# Altium footprint library LaserPCB.PcbLib: 69 footprints (part 1 of 5)
Each footprint in its own frame and in the unit in brackets; x right, y up, seen from the top. Pads: shape width x height; smd on the part's side, far side on the other; paste and mask are expansions set on the pad; w line width, h text height; cw(c..) or ccw(c..) is an arc to the next point about the centre after c.
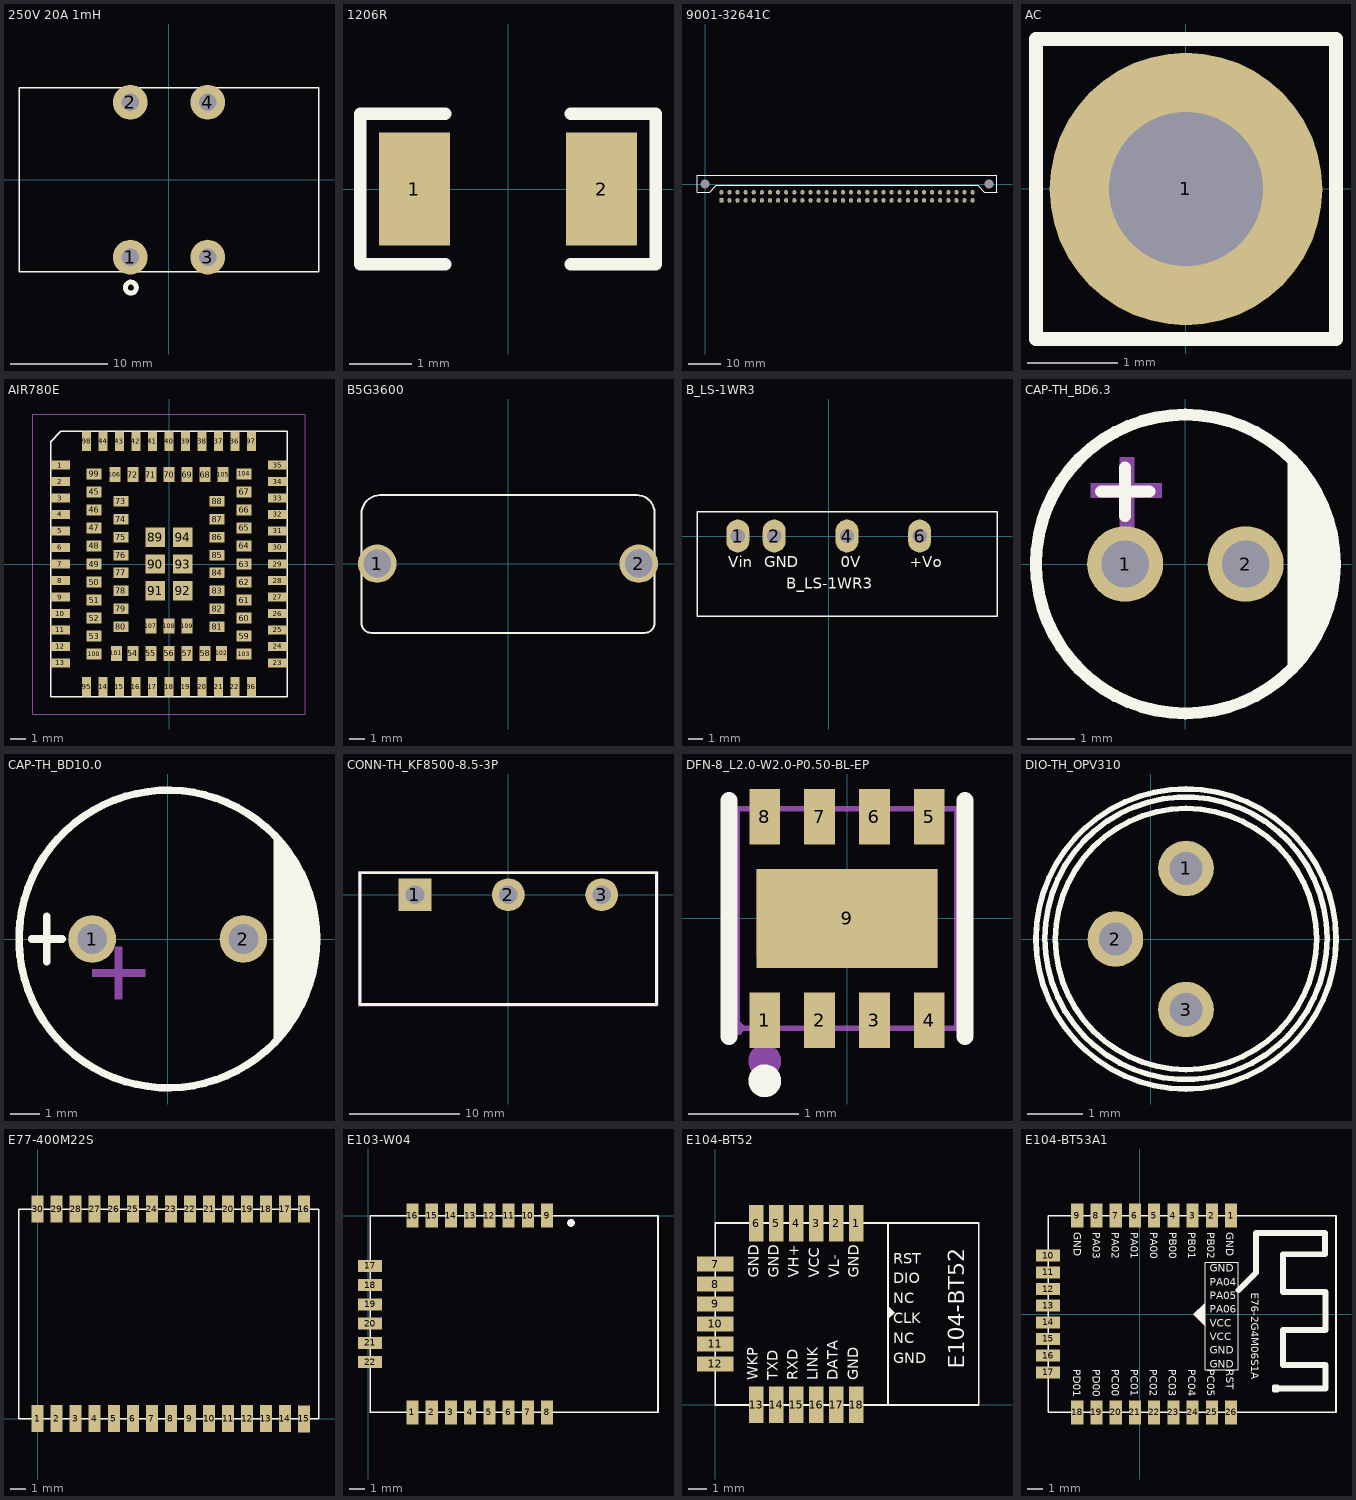
[diagram p0: the footprints below, top view; thin cyan lines are the x and y axes]

## 250V 20A 1mH [mm]
pads (4):
  round 3.6 hole 1.8: 1(-4,-8) 2(-4,8) 3(4,-8) 4(4,8)
Top Overlay:
  circle w0.508: c-3.943,-11.151 r0.568
  lines w0.152: -15.5,-9.5 -15.5,9.5 15.5,9.5 15.5,-9.5 -15.5,-9.5

## 1206R [mm]
pads (2):
  rect 1.13x1.8 smd: 1(-1.49,0) 2(1.49,0)
Top Overlay:
  lines w0.2: -1,-1.2 -2.355,-1.2 -2.355,1.2 -1,1.2 ; 1,-1.2 2.355,-1.2 2.355,1.2 1,1.2
3D body "User Library-RES_3216-1206.STEP": height 0.85, standoff 0, extent -1.7,-0.864 1.65,0.866

## 9001-32641C [mil]
pads (66):
  round 70 hole 110.24: 0(3500,0) 65(0,0)
  rect 50x55 hole 30 mask+4: 1(200,-200)
  oval 50x55 hole 30 mask+4: 2(200,-100) 3(300,-200) 4(300,-100) 5(400,-200) 6(400,-100) 7(500,-200) 8(500,-100) 9(600,-200) 10(600,-100) 11(700,-200) 12(700,-100) 13(800,-200) 14(800,-100) 15(900,-200) 16(900,-100) 17(1000,-200) 18(1000,-100) 19(1100,-200) 20(1100,-100) 21(1200,-200) 22(1200,-100) 23(1300,-200) 24(1300,-100) 25(1400,-200) 26(1400,-100) 27(1500,-200) 28(1500,-100) 29(1600,-200) 30(1600,-100) 31(1700,-200) 32(1700,-100) 33(1800,-200) 34(1800,-100) 35(1900,-200) 36(1900,-100) 37(2000,-200) 38(2000,-100) 39(2100,-200) 40(2100,-100) 41(2200,-200) 42(2200,-100) 43(2300,-200) 44(2300,-100) 45(2400,-200) 46(2400,-100) 47(2500,-200) 48(2500,-100) 49(2600,-200) 50(2600,-100) 51(2700,-200) 52(2700,-100) 53(2800,-200) 54(2800,-100) 55(2900,-200) 56(2900,-100) 57(3000,-200) 58(3000,-100) 59(3100,-200) 60(3100,-100) 61(3200,-200) 62(3200,-100) 63(3300,-200) 64(3300,-100)
Top Overlay:
  lines w10: -100,107.77 -100,-100 54.36,-100 139,-15.36 3361,-15.36 3445,-99.36 3445,-100 3600,-100 ; 3600,108.66 3600,-100 ; 3600.39,-100 3600,-100
  lines w11.81: -100,108.66 3600,108.66

## AC [mm]
pads (1):
  round 3 hole 1.7: 1(0,0)
Top Overlay:
  lines w0.152: -1.651,-1.651 -1.651,1.651 1.651,1.651 1.651,-1.651 -1.651,-1.651

## AIR780E [mm]
pads (109):
  rect 1.3x0.6 smd paste+0.05 mask+0.05: 1(-7.25,6.6) 2(-7.25,5.5) 3(-7.25,4.4) 4(-7.25,3.3) 5(-7.25,2.2) 6(-7.25,1.1) 7(-7.25,0) 8(-7.25,-1.1) 9(-7.25,-2.2) 10(-7.25,-3.3) 11(-7.25,-4.4) 12(-7.25,-5.5) 13(-7.25,-6.6) 23(7.25,-6.6) 24(7.25,-5.5) 25(7.25,-4.4) 26(7.25,-3.3) 27(7.25,-2.2) 28(7.25,-1.1) 29(7.25,0) 30(7.25,1.1) 31(7.25,2.2) 32(7.25,3.3) 33(7.25,4.4) 34(7.25,5.5) 35(7.25,6.6)
  rect 0.6x1.3 smd paste+0.05 mask+0.05: 14(-4.4,-8.2) 15(-3.3,-8.2) 16(-2.2,-8.2) 17(-1.1,-8.2) 18(0,-8.2) 19(1.1,-8.2) 20(2.2,-8.2) 21(3.3,-8.2) 22(4.4,-8.2) 36(4.4,8.2) 37(3.3,8.2) 38(2.2,8.2) 39(1.1,8.2) 40(0,8.2) 41(-1.1,8.2) 42(-2.2,8.2) 43(-3.3,8.2) 44(-4.4,8.2) 95(-5.5,-8.2) 96(5.5,-8.2) 97(5.5,8.2) 98(-5.5,8.2)
  rect 1x0.7 smd mask+0.05: 45(-5,4.8) 46(-5,3.6) 47(-5,2.4) 48(-5,1.2) 49(-5,0) 50(-5,-1.2) 51(-5,-2.4) 52(-5,-3.6) 53(-5,-4.8) 59(5,-4.8) 60(5,-3.6) 61(5,-2.4) 62(5,-1.2) 63(5,0) 64(5,1.2) 65(5,2.4) 66(5,3.6) 67(5,4.8) 73(-3.2,4.2) 74(-3.2,3) 75(-3.2,1.8) 76(-3.2,0.6) 77(-3.2,-0.6) 78(-3.2,-1.8) 79(-3.2,-3) 80(-3.2,-4.2) 81(3.2,-4.2) 82(3.2,-3) 83(3.2,-1.8) 84(3.2,-0.6) 85(3.2,0.6) 86(3.2,1.8) 87(3.2,3) 88(3.2,4.2) 99(-5,6) 100(-5,-6) 103(5,-6) 104(5,6)
  rect 0.7x1 smd mask+0.05: 54(-2.4,-5.95) 55(-1.2,-5.95) 56(0,-5.95) 57(1.2,-5.95) 58(2.4,-5.95) 68(2.4,5.95) 69(1.2,5.95) 70(0,5.95) 71(-1.2,5.95) 72(-2.4,5.95) 101(-3.5,-5.95) 102(3.5,-5.95) 105(3.6,5.95) 106(-3.6,5.95) 107(-1.2,-4.15) 108(0,-4.15) 109(1.2,-4.15)
  rect 1.3x1.3 smd mask+0.05: 89(-0.9,1.8) 90(-0.9,0) 91(-0.9,-1.8) 92(0.9,-1.8) 93(0.9,0) 94(0.9,1.8)
Top Overlay:
  lines w0.1: -7.9,-8.85 -7.9,8.15 -7.2,8.85 7.9,8.85 7.9,-8.85 -7.9,-8.85
Top Assembly:
  lines w0.01: -9.1,-10 -9.1,10 9.1,10 9.1,-10 -9.1,-10

## B5G3600 [mm]
pads (2):
  round 2.5 hole 1.8: 1(-8.5,0) 2(8.5,0)
Top Overlay:
  lines w0.127: -9.525,-3.865 ccw(c-8.89,-3.865) -8.89,-4.5 8.89,-4.5 ccw(c8.89,-3.865) 9.525,-3.865 9.525,3.302 ccw(c8.382,3.302) 8.382,4.445 -8.31,4.445 ccw(c-8.31,3.23) -9.525,3.23 -9.525,-3.865

## B_LS-1WR3 [mm]
pads (4):
  oval 1.6x2.3 hole 1: 1(-6.35,0) 2(-3.81,0) 4(1.27,0) 6(6.35,0)
Top Overlay:
  lines w0.1: -9.2,-5.6 11.75,-5.6 11.75,1.7 -9.2,1.7 -9.2,-5.6
  text "B_LS-1WR3" at -2.97,-3.688 h0.76
  text "+Vo" at 5.666,-2.164 h0.76
  text "0V" at 0.84,-2.164 h0.76
  text "GND" at -4.494,-2.164 h0.76
  text "Vin" at -7.034,-2.164 h0.76
3D body "B-LS-1WR3.stp": height 10.16, standoff -4.1, extent -8.582,-5.109 11.068,0.891

## CAP-TH_BD6.3 [mm]
pads (2):
  round 1.6 hole 1: 1(-1.27,0) 2(1.27,0)
Top Overlay:
  circle w0.254: c0,0 r3.15
  region: 2.159,2.286 2.319,2.142 2.595,1.812 2.822,1.447 2.997,1.054 3.115,0.641 3.175,0.215 3.175,-0.215 3.115,-0.641 2.997,-1.054 2.822,-1.447 2.595,-1.812 2.319,-2.142 2.159,-2.286
  lines w0.254: -1.778,1.524 -0.762,1.524 ; -1.27,1.016 -1.27,2.032
Mechanical 15:
  region: -1.381,0.752 -1.381,2.252 -1.081,2.252 -1.081,0.752
  region: -2,1.7 -0.5,1.7 -0.5,1.4 -2,1.4

## CAP-TH_BD10.0 [mm]
pads (2):
  round 1.6 hole 1: 1(-2.54,0) 2(2.54,0)
Top Overlay:
  circle w0.254: c0,0 r5
  region: 3.556,3.556 3.556,-3.556 4.318,-2.54 4.826,-1.016 5.08,0.508 4.826,1.524
  lines w0.254: -4.572,0 -3.556,0 ; -4.064,-0.762 -4.064,0.762
Mechanical 15:
  region: -2.54,-1.016 -0.762,-1.016 -0.762,-1.27 -2.54,-1.27
  region: -1.778,-0.762 -1.778,-2.032 -1.524,-2.032 -1.524,-0.254 -1.778,-0.254

## CONN-TH_KF8500-8.5-3P [mm]
pads (3):
  rect 3x3 hole 1.7: 1(-8.5,0)
  round 3 hole 1.7: 2(0,0) 3(8.5,0)
Top Overlay:
  lines w0.254: -13.5,-10 13.5,-10 13.5,2 -13.5,2 -13.5,-10
Mechanical 15:
  region: -13.567,-10.127 -13.567,-10.102 -13.602,-10.067 -13.652,-10.067 -13.687,-10.102 -13.687,-10.127 -13.687,-10.152 -13.652,-10.187 -13.602,-10.187 -13.567,-10.152
  region: -7.75,0 -7.75,0.099 -7.801,0.29 -7.9,0.461 -8.04,0.6 -8.211,0.699 -8.401,0.75 -8.599,0.75 -8.79,0.699 -8.961,0.6 -9.1,0.46 -9.199,0.289 -9.25,0.099 -9.25,0 -9.25,-0.099 -9.199,-0.29 -9.1,-0.461 -8.961,-0.6 -8.79,-0.699 -8.599,-0.75 -8.401,-0.75 -8.211,-0.699 -8.039,-0.6 -7.9,-0.461 -7.801,-0.29 -7.75,-0.099
  region: 0.75,0 0.75,0.099 0.699,0.29 0.6,0.461 0.461,0.6 0.29,0.699 0.099,0.75 -0.099,0.75 -0.289,0.699 -0.461,0.6 -0.6,0.46 -0.699,0.289 -0.75,0.099 -0.75,0 -0.75,-0.099 -0.699,-0.29 -0.6,-0.461 -0.46,-0.6 -0.289,-0.699 -0.099,-0.75 0.099,-0.75 0.29,-0.699 0.461,-0.6 0.6,-0.461 0.699,-0.29 0.75,-0.099
  region: 9.25,0 9.25,0.099 9.199,0.29 9.1,0.461 8.96,0.6 8.789,0.699 8.599,0.75 8.401,0.75 8.21,0.699 8.039,0.6 7.9,0.46 7.801,0.289 7.75,0.099 7.75,0 7.75,-0.099 7.801,-0.29 7.9,-0.461 8.039,-0.6 8.21,-0.699 8.401,-0.75 8.599,-0.75 8.789,-0.699 8.96,-0.6 9.1,-0.461 9.199,-0.29 9.25,-0.099
  lines w0.051: -13.627,-10.127 -13.627,2.127 13.627,2.127 13.627,-10.127 -13.627,-10.127

## DFN-8_L2.0-W2.0-P0.50-BL-EP [mm]
pads (9):
  rect 0.28x0.505 smd: 1(-0.75,-0.928) 2(-0.25,-0.928) 3(0.25,-0.928) 4(0.75,-0.928) 5(0.75,0.928) 6(0.25,0.928) 7(-0.25,0.928) 8(-0.75,0.928)
  rect 1.65x0.9 smd: 9(0,0)
Top Overlay:
  circle w0.15: c-0.75,-1.48 r0.075
  lines w0.152: -1.076,-1.076 -1.076,1.076 ; 1.076,-1.076 1.076,1.076
Mechanical 6:
  circle w0.15: c-0.75,-1.3 r0.075
Mechanical 15:
  region: -0.825,-0.36 -0.825,0.45 0.825,0.45 0.825,-0.45 -0.735,-0.45
  region: -0.875,1 -0.875,0.7 -0.625,0.7 -0.625,1
  region: -0.375,1 -0.375,0.7 -0.125,0.7 -0.125,1
  region: 0.125,1 0.125,0.7 0.375,0.7 0.375,1
  region: 0.625,1 0.625,0.7 0.875,0.7 0.875,1
  region: 0.625,-1 0.625,-0.7 0.875,-0.7 0.875,-1
  region: 0.125,-1 0.125,-0.7 0.375,-0.7 0.375,-1
  region: -0.375,-1 -0.375,-0.7 -0.125,-0.7 -0.125,-1
  region: -0.875,-1 -0.875,-0.7 -0.625,-0.7 -0.625,-1
  region: -0.94,-1 -0.94,-1.025 -0.975,-1.06 -1.025,-1.06 -1.06,-1.025 -1.06,-1 -1.06,-0.975 -1.025,-0.94 -0.975,-0.94 -0.94,-0.975
  lines w0.051: -1,-1 1,-1 1,1 -1,1 -1,-1

## DIO-TH_OPV310 [mm]
pads (3):
  round 1 hole 0.6: 1(0.635,1.27) 2(-0.635,0) 3(0.635,-1.27)
Top Overlay:
  circle w0.1: c0.635,0 r2.35
  circle w0.1: c0.635,0 r2.7
  circle w0.1: c0.635,0.013 r2.541

## E77-400M22S [mm] "20mm*14mm*2.8mm-S"
pads (30):
  rect 0.8x1.8 smd: 1(0,0) 2(1.27,0) 3(2.54,0) 4(3.81,0) 5(5.08,0) 6(6.35,0) 7(7.62,0) 8(8.89,0) 9(10.16,0) 10(11.43,0) 11(12.7,0) 12(13.97,0) 13(15.222,0) 14(16.492,0) 15(17.762,-0.03) 16(17.762,13.97) 17(16.492,13.97) 18(15.222,13.97) 19(13.97,13.97) 20(12.7,13.97) 21(11.43,13.97) 22(10.16,13.97) 23(8.89,13.97) 24(7.62,13.97) 25(6.35,13.97) 26(5.08,13.97) 27(3.81,13.97) 28(2.54,13.97) 29(1.27,13.97) 30(0,13.97)
Top Overlay:
  lines w0.1: -1.238,-0.03 18.762,-0.03 18.762,13.97 -1.238,13.97 -1.238,-0.03

## E103-W04 [mm]
pads (22):
  rect 0.8x1.6 smd: 1(2.921,-13) 2(4.191,-13) 3(5.461,-13) 4(6.731,-13) 5(8.001,-13) 6(9.271,-13) 7(10.541,-13) 8(11.811,-13) 9(11.811,0) 10(10.541,0) 11(9.271,0) 12(8.001,0) 13(6.731,0) 14(5.461,0) 15(4.191,0) 16(2.921,0)
  rect 1.6x0.8 smd: 17(0.127,-3.325) 18(0.127,-4.595) 19(0.127,-5.865) 20(0.127,-7.135) 21(0.127,-8.405) 22(0.127,-9.675)
Top Overlay:
  circle w0.2: c13.377,-0.49 r0.045
  circle w0.2: c13.387,-0.49 r0.155
  lines w0.1: 0.127,-12.994 0.131,-12.998 19.127,-12.998 19.127,0 0.127,0 0.127,-12.75 0.127,-12.994

## E104-BT52 [mm]
pads (18):
  rect 0.8x2 smd: 1(7.75,10) 2(6.65,10) 3(5.55,10) 4(4.45,10) 5(3.35,10) 6(2.25,10) 13(2.25,0) 14(3.35,0) 15(4.45,0) 16(5.55,0) 17(6.65,0) 18(7.75,0)
  rect 2x0.8 smd: 7(0,7.75) 8(0,6.65) 9(0,5.55) 10(0,4.45) 11(0,3.35) 12(0,2.25)
Top Overlay:
  region: 9.5,5.461 9.881,5.08 9.529,4.728
  lines w0.1: 9.5,0 9.5,10 ; 0,0 14.5,0 14.5,10 0,10 0,0
  text "VL-" at 7.005,6.986 h1
  text "GND" at 2.599,6.986 h1
  text "WKP" at 2.539,1.355 h1
  text "GND" at 8.048,1.355 h1
  text "DATA" at 6.946,1.355 h1
  text "RXD" at 4.734,1.355 h1
  text "TXD" at 3.632,1.355 h1
  text "GND" at 8.095,6.986 h1
  text "VCC" at 5.904,6.986 h1
  text "VH+" at 4.79,6.986 h1
  text "GND" at 3.692,6.986 h1
  text "RST" at 9.795,7.585 h1
  text "DIO" at 9.795,6.489 h1
  text "NC" at 9.795,5.394 h1
  text "CLK" at 9.795,4.298 h1
  text "NC" at 9.795,3.203 h1
  text "GND" at 9.795,2.107 h1
  text "LINK" at 5.836,1.355 h1
  text "E104-BT52" at 14,2 h1.5

## E104-BT53A1 [mm]
pads (26):
  rect 0.8x1.6 smd: 1(6.04,6.5) 2(4.77,6.5) 3(3.5,6.5) 4(2.23,6.5) 5(0.96,6.5) 6(-0.31,6.5) 7(-1.58,6.5) 8(-2.85,6.5) 9(-4.12,6.5) 18(-4.12,-6.5) 19(-2.85,-6.5) 20(-1.58,-6.5) 21(-0.31,-6.5) 22(0.96,-6.5) 23(2.23,-6.5) 24(3.5,-6.5) 25(4.77,-6.5) 26(6.04,-6.5)
  rect 1.6x0.8 smd: 10(-6.04,3.85) 11(-6.04,2.75) 12(-6.04,1.65) 13(-6.04,0.55) 14(-6.04,-0.55) 15(-6.04,-1.65) 16(-6.04,-2.75) 17(-6.04,-3.85)
Top Overlay:
  lines w0.06: 3.637,-0.026 3.787,-0.026 ; 3.687,-0.076 4.287,-0.676 4.287,0.624 ; 3.687,0.024 4.237,0.574 4.237,-0.576 3.737,-0.076 3.737,0.024 4.187,0.474 4.187,-0.526 4.137,-0.476 4.137,-0.426 3.787,-0.076 3.787,0.024 4.137,0.374 4.137,-0.376 3.837,-0.076 3.837,0.074 4.037,0.274 4.037,-0.226 4.087,-0.276 4.087,0.274 3.887,0.074 3.887,-0.026 4.037,-0.176 3.987,-0.176 3.887,-0.076 3.887,0.024 3.987,0.124 3.987,-0.026 3.987,-0.076 3.937,-0.026 3.937,0.024 ; 4.337,-3.692 4.337,-1.276 4.337,3.42 ; 4.337,-0.776 3.587,-0.026 4.337,0.724 ; 4.346,-3.696 6.498,-3.696 ; 4.352,3.416 6.493,3.416 ; 6.497,-3.698 6.497,3.42
  lines w0.1: -6.04,-6.5 -6.04,6.5 12.96,6.5 12.96,-6.5 -6.04,-6.5
  lines w0.254: 9.11,-5.045 8.856,-5.045 8.856,-4.791 9.11,-4.791
  lines w0.381: 6.532,1.572 7.688,2.728 7.688,5.344 12.235,5.344 12.235,3.947 9.466,3.947 9.466,1.458 12.26,1.458 12.26,-1.057 9.466,-1.057 9.466,-3.368 12.26,-3.368 12.26,-4.918 8.983,-4.918
  text "E76-2G4M06S1A" at 7.36,1.4 h0.5
  text "PC00" at -1.846,-3.633 h0.5
  text "PD00" at -3.106,-3.633 h0.5
  text "PC01" at -0.586,-3.633 h0.5
  text "PC02" at 0.673,-3.633 h0.5
  text "PD01" at -4.366,-3.633 h0.5
  text "PC03" at 1.933,-3.633 h0.5
  text "PC04" at 3.193,-3.633 h0.5
  text "PC05" at 4.453,-3.633 h0.5
  text "RST" at 5.713,-3.633 h0.5
  text "GND" at -4.344,5.381 h0.5
  text "PA03" at -3.087,5.381 h0.5
  text "PA02" at -1.829,5.381 h0.5
  text "PA01" at -0.571,5.381 h0.5
  text "PA00" at 0.687,5.381 h0.5
  text "PB00" at 1.944,5.381 h0.5
  text "PB01" at 3.202,5.381 h0.5
  text "PB02" at 4.46,5.381 h0.5
  text "GND" at 5.732,5.381 h0.5
  text "GND" at 4.617,-3.533 h0.5
  text "GND" at 4.617,-2.632 h0.5
  text "VCC" at 4.617,-1.73 h0.5
  text "VCC" at 4.617,-0.828 h0.5
  text "PA06" at 4.617,0.073 h0.5
  text "PA05" at 4.617,0.975 h0.5
  text "GND" at 4.617,2.778 h0.5
  text "PA04" at 4.617,1.876 h0.5